# Altium schematic symbol library U_RBO40.SchLib: 1 symbol
Pins are listed as number, name and electrical type; pins without a type are passive.

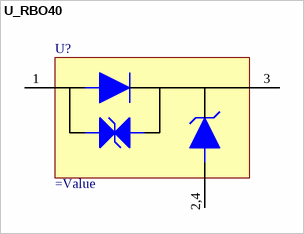
[diagram p0: symbol U_RBO40]

## U_RBO40
designator U?
pins: 1 Input, 2,4 GND, 3 Output